# Altium footprint library WL-SMRW.PcbLib: 2 footprints
Each footprint in its own frame and in the unit in brackets; x right, y up, seen from the top. Pads: shape width x height; smd on the part's side, far side on the other; paste and mask are expansions set on the pad; w line width, h text height; cw(c..) or ccw(c..) is an arc to the next point about the centre after c.
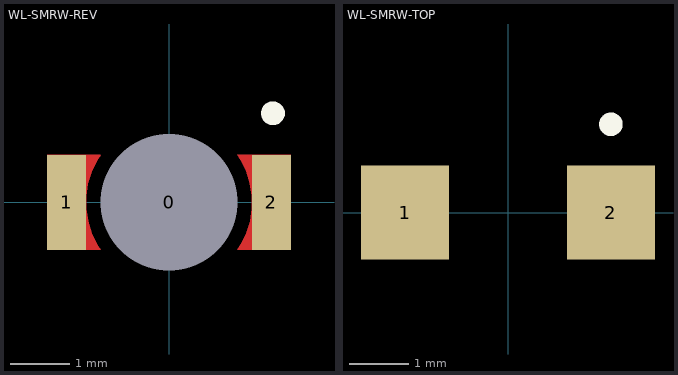
[diagram p0: the footprints below, top view; thin cyan lines are the x and y axes]

## WL-SMRW-REV [mm]
pads (3):
  round 1 hole 2.3 unplated: 0(0,0)
  rect 0.65x1.6 smd: 1(-1.725,0) 2(1.725,0)
Top Layer:
  region: -2.05,-0.8 -2.05,0.8 -1.156,0.8 -1.151,0.797 -1.208,0.707 -1.301,0.517 -1.364,0.314 -1.396,0.104 -1.396,-0.108 -1.363,-0.318 -1.3,-0.52 -1.206,-0.711 -1.149,-0.8
  region: 2.05,0.8 2.05,-0.8 1.156,-0.8 1.151,-0.797 1.208,-0.707 1.301,-0.517 1.364,-0.314 1.396,-0.104 1.396,0.108 1.363,0.318 1.3,0.52 1.206,0.711 1.149,0.8
Top Overlay:
  circle w0.2: c1.75,1.5 r0.1
3D body "Download_STP_WR-SMRW_1206_rectangular (rev1).stp": height 0.4, standoff -0.8, extent -1.6,-0.8 1.6,0.8

## WL-SMRW-TOP [mm]
pads (2):
  rect 1.5x1.6 smd: 1(-1.75,0) 2(1.75,0)
Top Overlay:
  circle w0.2: c1.75,1.5 r0.1
3D body "Download_STP_WR-SMRW_1206_rectangular (rev1).stp": height 1.2, standoff 0, extent -1.6,-0.8 1.6,0.8